# EAGLE library part SPARKIMU (library custom)
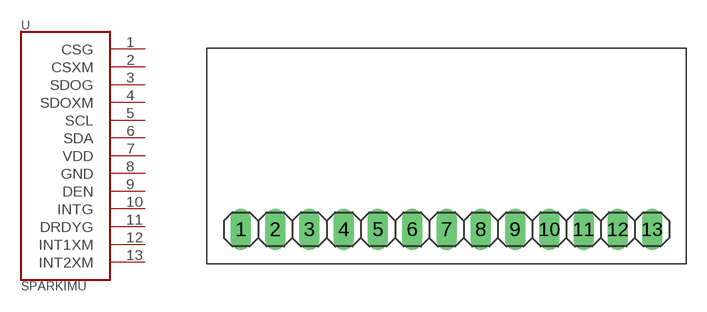
[diagram p1: symbol with the pads of 1X13; footprint 1X13]

Designator prefix -

## SPARKIMU  [1X13]
1  CSG
2  CSXM
3  SDOG
4  SDOXM
5  SCL
6  SDA
7  VDD
8  GND
9  DEN
10  INTG
11  DRDYG
12  INT1XM
13  INT2XM

## Footprint 1X13 (pad centres in mm)
PIN HEADER
drill 1.016 long: 1 -15.24,0; 2 -12.7,0; 3 -10.16,0; 4 -7.62,0; 5 -5.08,0; 6 -2.54,0; 7 0,0; 8 2.54,0; 9 5.08,0; 10 7.62,0; 11 10.16,0; 12 12.7,0; 13 15.24,0